# Altium footprint library Crystal Oscillator.PcbLib: 23 footprints (part 2 of 2)
Each footprint in its own frame and in the unit in brackets; x right, y up, seen from the top. Pads: shape width x height; smd on the part's side, far side on the other; paste and mask are expansions set on the pad; w line width, h text height; cw(c..) or ccw(c..) is an arc to the next point about the centre after c.
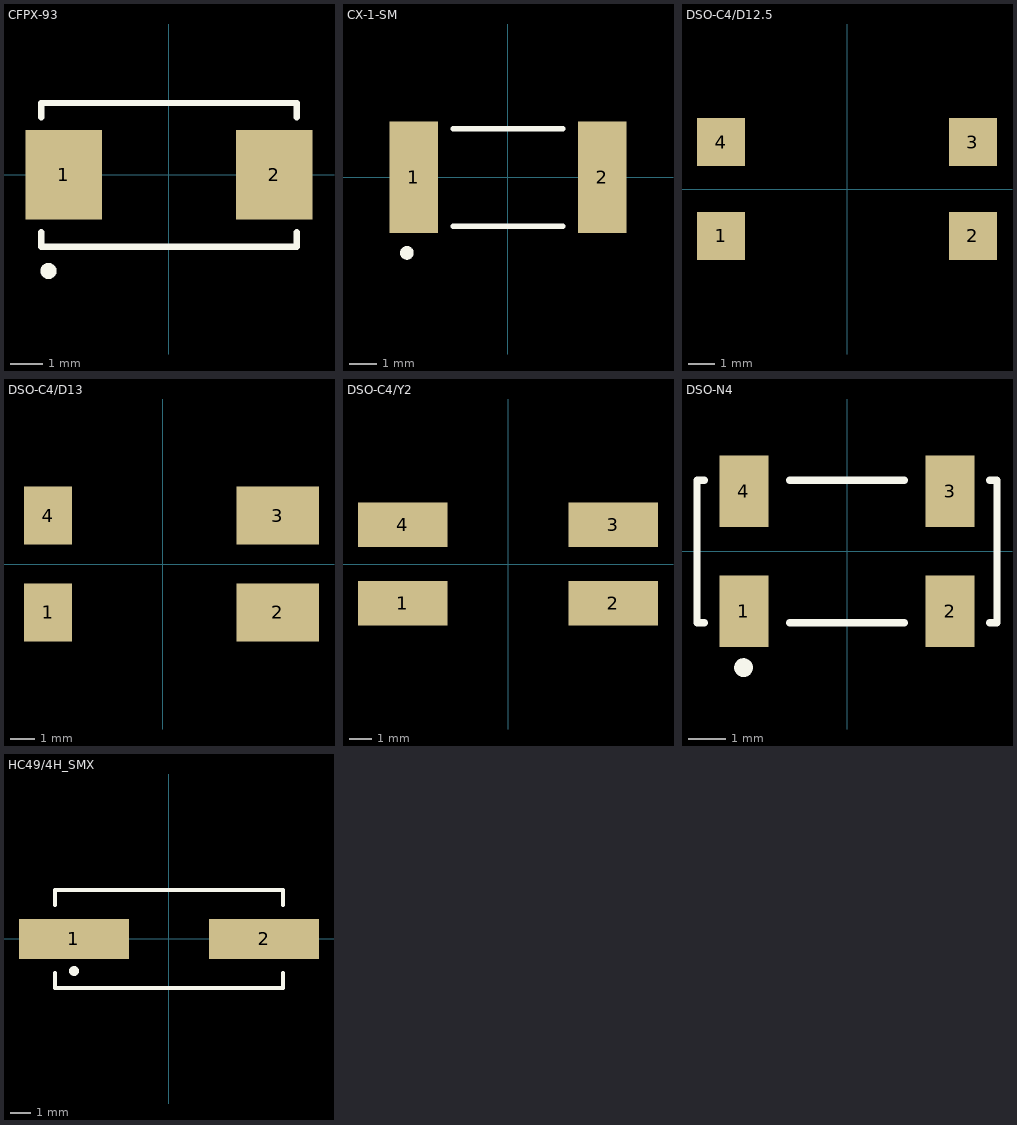
[diagram p1: the footprints below, top view; thin cyan lines are the x and y axes]

## CFPX-93 [mm] "Quartz Crystal, SM; Body 8.2 x 4.7 mm (LxW max)"
height 1.8
pads (2):
  rect 2.4x2.8 smd: 1(-3.3,0) 2(3.3,0)
Top Overlay:
  circle w0.25: c-3.775,-3.011 r0.125
  lines w0.2: -4,-1.8 -4,-2.25 4,-2.25 4,-1.8 ; -4,1.8 -4,2.25 4,2.25 4,1.8

## CX-1-SM [mm] "Quartz Crystal, SM; Body 8.1 x 3.56 mm (LxW)"
height 2
pads (2):
  rect 1.78x4.06 smd: 1(-3.43,0) 2(3.43,0)
Top Overlay:
  circle w0.25: c-3.681,-2.747 r0.125
  lines w0.2: -2,-1.78 2,-1.78 ; -2,1.78 2,1.78

## DSO-C4/D12.5 [mm] "Quartz Crystal, SM; 4 Leads; Body 12.5 x 4.6 x 3.7 mm (LxWxH)"
height 3.7
pads (4):
  rect 1.8x1.8 smd: 1(-4.7,-1.75) 2(4.7,-1.75) 3(4.7,1.75) 4(-4.7,1.75)

## DSO-C4/D13 [mm] "Quartz Crystal, SM; 4 Leads; Body 13 x 5 x 5 mm (LxWxH)"
height 5
pads (4):
  rect 2x2.4 smd: 1(-4.75,-2) 4(-4.75,2)
  rect 3.4x2.4 smd: 2(4.75,-2) 3(4.75,2)

## DSO-C4/Y2 [mm] "Quartz Crystal, SM; 4 Leads; Body 13 x 4.7 x 4.2 mm (LxWxH)"
height 4.2
pads (4):
  rect 4x2 smd: 1(-4.7,-1.75) 2(4.7,-1.75) 3(4.7,1.75) 4(-4.7,1.75)

## DSO-N4 [mm] "Crystal, SM; 4 Leads; Body 8 x 3.8 x 2.5 mm (LxWxH)"
height 2.5
pads (4):
  rect 1.3x1.9 smd: 1(-2.75,-1.6) 2(2.75,-1.6) 3(2.75,1.6) 4(-2.75,1.6)
Top Overlay:
  circle w0.25: c-2.76,-3.1 r0.125
  lines w0.2: -3.8,-1.9 -4,-1.9 -4,1.9 -3.8,1.9 ; -1.524,-1.9 1.524,-1.9 ; -1.524,1.9 1.524,1.9 ; 3.8,-1.9 4,-1.9 4,1.9 3.8,1.9

## HC49/4H_SMX [mm] "Quartz Crystal, SM; Body 13.4 (inc. leads) x 4.9 mm (LxW max)"
height 4.3
pads (2):
  rect 5.5x2 smd: 1(-4.75,0) 2(4.75,0)
Top Overlay:
  circle w0.25: c-4.75,-1.6 r0.125
  lines w0.2: -5.7,-1.7 -5.7,-2.45 5.7,-2.45 5.7,-1.7 ; -5.7,1.7 -5.7,2.45 5.7,2.45 5.7,1.7